# EAGLE library part XIAO_RP2040 (library Module)
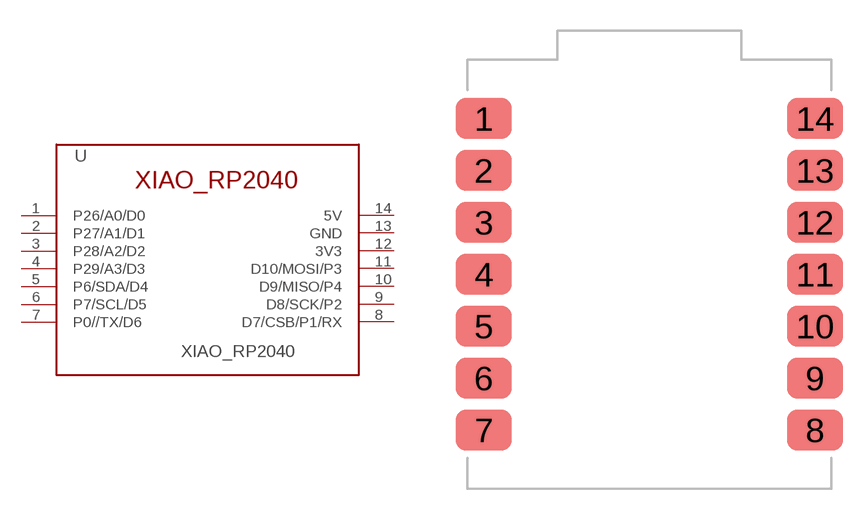
[diagram p0: symbol with the pads of XIAO_RP2040; footprint XIAO_RP2040]

Designator prefix -

## XIAO_RP2040  [XIAO_RP2040]
1  P26/A0/D0
2  P27/A1/D1
3  P28/A2/D2
4  P29/A3/D3
5  P6/SDA/D4
6  P7/SCL/D5
7  P0//TX/D6
8  D7/CSB/P1/RX
9  D8/SCK/P2
10  D9/MISO/P4
11  D10/MOSI/P3
12  3V3  pwr
13  GND  pwr
14  5V  pwr

## Footprint XIAO_RP2040 (pad centres in mm)
smd 2.75 x 2: 1 -8.1,7.62; 2 -8.1,5.08; 3 -8.1,2.54; 4 -8.1,0; 5 -8.1,-2.54; 6 -8.1,-5.08; 7 -8.1,-7.62; 8 8.1,-7.62; 9 8.1,-5.08; 10 8.1,-2.54; 11 8.1,0; 12 8.1,2.54; 13 8.1,5.08; 14 8.1,7.62